# EAGLE library part CC2500 (library ads4)
TI/Chipcon CC2500 2.4 GHz Transceiver
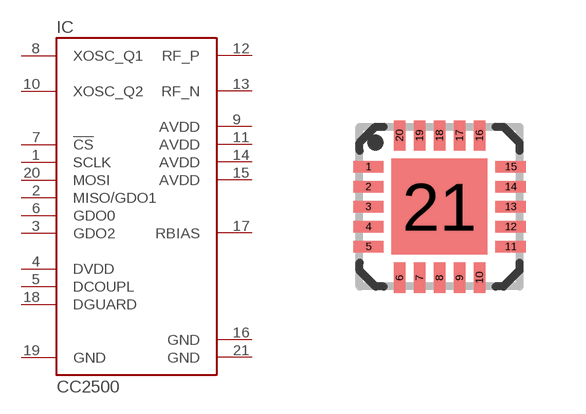
[diagram p78: symbol with the pads of QLP-20; footprint QLP-20]

Designator prefix IC

## CC2500  [QLP-20]
1  SCLK  in
2  MISO/GDO1  hiz
3  GDO2  out
4  DVDD  pwr
5  DCOUPL  pas
6  GDO0
7  !CS  in
8  XOSC_Q1  pas
9  AVDD  pwr
10  XOSC_Q2  pas
11  AVDD  pwr
12  RF_P  pas
13  RF_N  pas
14  AVDD  pwr
15  AVDD  pwr
16  GND  pwr
17  RBIAS  pas
18  DGUARD  pwr
19  GND  pwr
20  MOSI  in
21  GND  pwr

## Footprint QLP-20 (pad centres in mm)
TI/Chipcon QLP-20 Package Designed to be soldered with a 0.005" thick solder paste stencil
smd 0.76 x 0.28: 1 -1.78,1; 2 -1.78,0.5; 3 -1.78,0; 4 -1.78,-0.5; 5 -1.78,-1; 11 1.78,-1; 12 1.78,-0.5; 13 1.78,0; 14 1.78,0.5; 15 1.78,1
smd 0.28 x 0.76: 6 -1,-1.78; 7 -0.5,-1.78; 8 0,-1.78; 9 0.5,-1.78; 10 1,-1.78; 16 1,1.78; 17 0.5,1.78; 18 0,1.78; 19 -0.5,1.78; 20 -1,1.78
smd 2.4 x 2.4: 21 0,0